# Altium footprint library Sonar.PcbLib: 9 footprints
Each footprint in its own frame and in the unit in brackets; x right, y up, seen from the top. Pads: shape width x height; smd on the part's side, far side on the other; paste and mask are expansions set on the pad; w line width, h text height; cw(c..) or ccw(c..) is an arc to the next point about the centre after c.
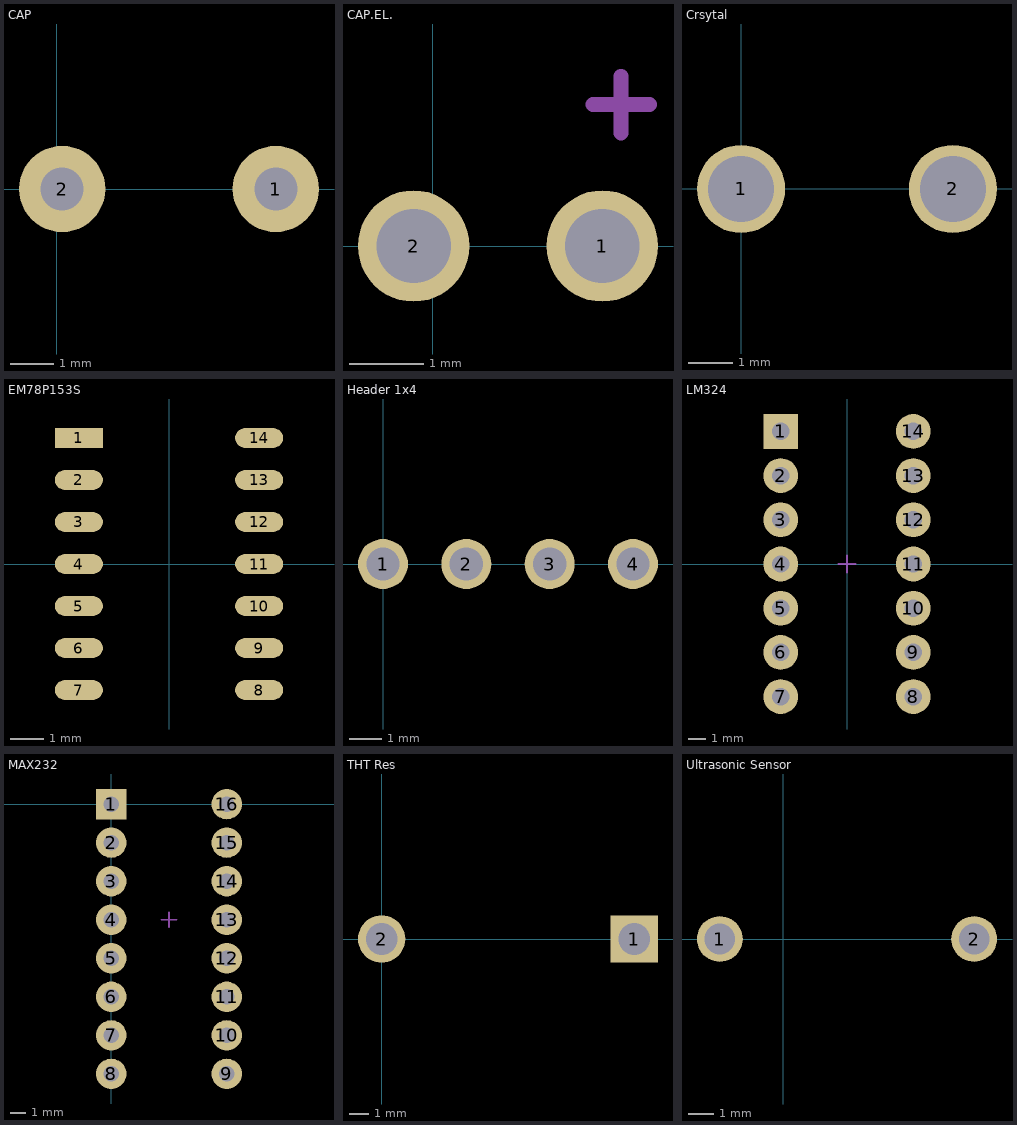
[diagram p0: the footprints below, top view; thin cyan lines are the x and y axes]

## CAP [mm]
pads (2):
  round 2 hole 1: 1(5.08,0) 2(0.127,0)
3D body "User Library-Disc_CAP d6x3_5_5mm.STEP": height 8.1, standoff -2.02, extent -0.46,-1.084 5.54,1.016

## CAP.EL. [mm]
pads (2):
  round 1.5 hole 1: 1(2.286,0) 2(-0.254,0)
Mechanical 1:
  lines w0.2: 2.159,1.905 2.921,1.905 ; 2.54,1.524 2.54,2.286
3D body "CAP_10uF_50V_low_profile.stp": height 8, standoff -2.6, extent -2.145,-3.175 4.177,3.145

## Crsytal [mm]
pads (2):
  round 2 hole 1.5: 1(0,0) 2(4.8,0)
3D body "User Library-HC49S-1.STEP": height 2, standoff -4.6, extent -3.09,-2.2 7.89,2.291

## EM78P153S [mm] "SOP, 14-Leads, Body 8,65x3,90mm, Pitch 1,27mm, IPC Medium Density"
height 2
pads (14):
  rect 1.45x0.6 smd: 1(-2.725,3.81)
  oval 1.45x0.6 smd: 2(-2.725,2.54) 3(-2.725,1.27) 4(-2.725,0) 5(-2.725,-1.27) 6(-2.725,-2.54) 7(-2.725,-3.81) 8(2.725,-3.81) 9(2.725,-2.54) 10(2.725,-1.27) 11(2.725,0) 12(2.725,1.27) 13(2.725,2.54) 14(2.725,3.81)
3D body "EM78P153S.step": height 2, standoff 0.01, extent -2.998,-4.4 2.998,4.4

## Header 1x4 [mil]
pads (4):
  round 60 hole 40.16: 1(0,0) 2(100,0) 3(200,0) 4(300,0)
3D body "Pin Header 1x4 TH Pitch 2.54mm.stp": height 125.98, standoff -373.85, extent -50,-50 350,50

## LM324 [mm] "DIP, 14-Leads, Body 19.7x6.6mm, Pitch 2.54mm"
height 5.08
pads (14):
  rect 2x2 hole 1: 1(-3.81,7.62)
  round 2 hole 1: 2(-3.81,5.08) 3(-3.81,2.54) 4(-3.81,0) 5(-3.81,-2.54) 6(-3.81,-5.08) 7(-3.81,-7.62) 8(3.81,-7.62) 9(3.81,-5.08) 10(3.81,-2.54) 11(3.81,0) 12(3.81,2.54) 13(3.81,5.08) 14(3.81,7.62)
Mechanical 15:
  lines w0.1: -0.5,0 0.5,0 ; 0,-0.5 0,0.5
3D body "a_14-lc-tt.stp": height 2.25, standoff -6, extent -5.08,-8.89 5.08,8.89
3D body "LM324N.STEP": height -1.83, standoff -10.08, extent -5.461,-9.852 5.461,9.452

## MAX232 [mm]
pads (16):
  rect 2x2 hole 1: 1(0,0)
  round 2 hole 1: 2(0,-2.54) 3(0,-5.08) 4(0,-7.62) 5(0,-10.16) 6(0,-12.7) 7(0,-15.24) 8(0,-17.78) 9(7.62,-17.78) 10(7.62,-15.24) 11(7.62,-12.7) 12(7.62,-10.16) 13(7.62,-7.62) 14(7.62,-5.08) 15(7.62,-2.54) 16(7.62,0)
Mechanical 15:
  lines w0.1: 3.31,-7.62 4.31,-7.62 ; 3.81,-8.12 3.81,-7.12
3D body "a_16-lc-tt.stp": height 2.25, standoff -6, extent -1.28,-19.02 8.88,1.3
3D body "DIP-16.step": height -1.7, standoff -8.9, extent -0.1,-18.275 7.77,1.275

## THT Res [mm]
pads (2):
  rect 2.43x2.43 hole 1.62: 1(12.954,0)
  round 2.43 hole 1.62: 2(0,0)
3D body "User Library-Res50-Axial 0_5W-10K.STEP": height 3.37, standoff -6, extent -0.248,-1.845 13.202,1.905

## Ultrasonic Sensor [mm]
pads (2):
  round 1.8 hole 1.2: 1(-2.5,0) 2(7.5,0)
3D body "User Library-400PT160.STEP": height 9, standoff -13, extent -5.6,-8.1 10.6,8.1